# EAGLE library part PINHD-1X22 (library pinhead)
PIN HEADER
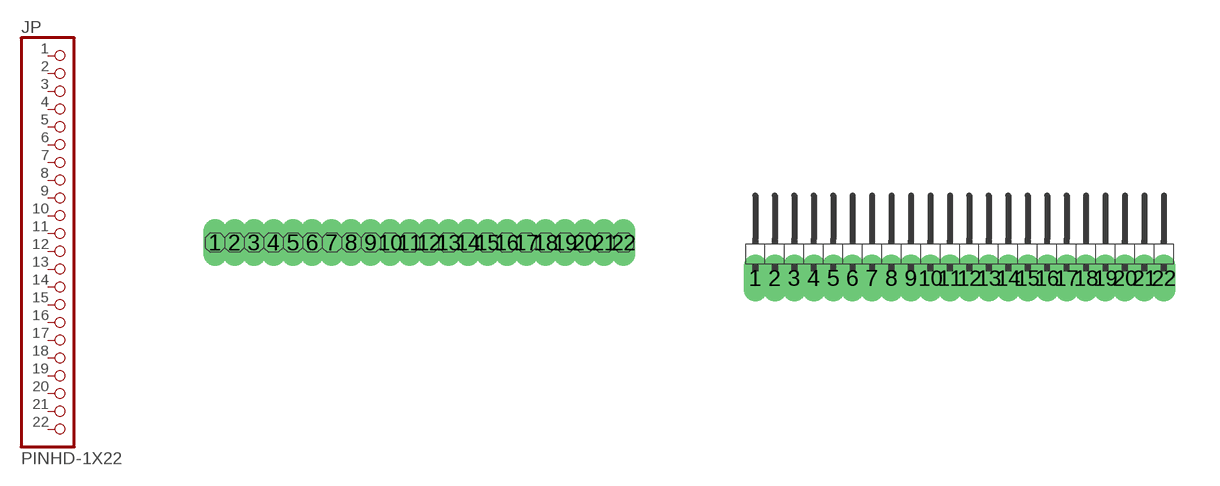
[diagram p15: symbol with the pads of 1X22; footprints 1X22, 1X22/90]

Designator prefix JP

## PINHD-1X22  [1X22]
1  1  pas
2  2  pas
3  3  pas
4  4  pas
5  5  pas
6  6  pas
7  7  pas
8  8  pas
9  9  pas
10  10  pas
11  11  pas
12  12  pas
13  13  pas
14  14  pas
15  15  pas
16  16  pas
17  17  pas
18  18  pas
19  19  pas
20  20  pas
21  21  pas
22  22  pas

## PINHD-1X22/90  [1X22/90]
Pads as for 1X22

## Footprint 1X22 (pad centres in mm)
PIN HEADER
drill 0.254 long: 1 -6.668,0; 2 -6.032,0; 3 -5.397,0; 4 -4.763,0; 5 -4.128,0; 6 -3.493,0; 7 -2.857,0; 8 -2.223,0; 9 -1.587,0; 10 -0.953,0; 11 -0.318,0; 12 0.318,0; 13 0.953,0; 14 1.587,0; 15 2.223,0; 16 2.857,0; 17 3.493,0; 18 4.128,0; 19 4.763,0; 20 5.397,0; 21 6.032,0; 22 6.668,0

## Footprint 1X22/90 (pad centres in mm)
PIN HEADER
drill 0.254 long: 1 -6.668,-0.953; 2 -6.032,-0.953; 3 -5.397,-0.953; 4 -4.763,-0.953; 5 -4.128,-0.953; 6 -3.493,-0.953; 7 -2.857,-0.953; 8 -2.223,-0.953; 9 -1.587,-0.953; 10 -0.953,-0.953; 11 -0.318,-0.953; 12 0.318,-0.953; 13 0.953,-0.953; 14 1.587,-0.953; 15 2.223,-0.953; 16 2.857,-0.953; 17 3.493,-0.953; 18 4.128,-0.953; 19 4.763,-0.953; 20 5.397,-0.953; 21 6.032,-0.953; 22 6.668,-0.953